# EAGLE library part L4960 (library st-microelectronics)
2.5A POWER SWITCHING REGULATOR http://www.st.com/internet/com/TECHNICAL_RESOURCES/TECHNICAL_LITERATURE/DATASHEET/CD00000075.pdf
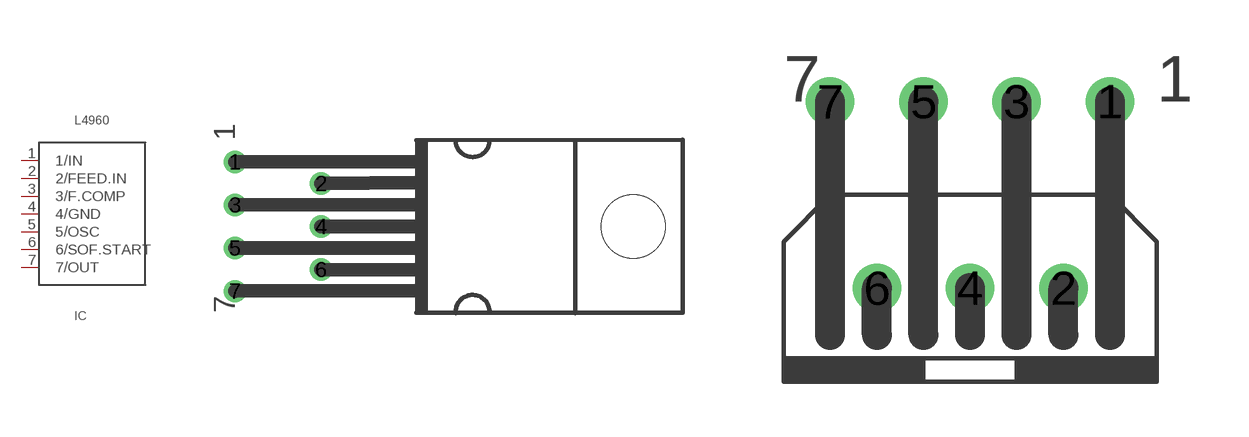
[diagram p48: symbol with the pads of HEPTAW.H; footprints HEPTAW.H, HEPTAWATT]

Designator prefix IC

## L4960  [HEPTAW.H]
1  1/IN  in
2  2/FEED.IN  in
3  3/F.COMP
4  4/GND  pwr
5  5/OSC
6  6/SOF.START
7  7/OUT  out

## L4960HEPTAWATT  [HEPTAWATT]
Pads as for HEPTAW.H

## Footprint HEPTAW.H (pad centres in mm)
drill 0.813: 1 -11.43,3.81; 2 -6.35,2.54; 3 -11.43,1.27; 4 -6.35,0; 5 -11.43,-1.27; 6 -6.35,-2.54; 7 -11.43,-3.81
hole 3.75 at 12.05,0

## Footprint HEPTAWATT (pad centres in mm)
HEPTAWATT 7
drill 0.813: 1 3.81,5.08; 2 2.54,0; 3 1.27,5.08; 4 0,0; 5 -1.27,5.08; 6 -2.54,0; 7 -3.81,5.08